# Altium schematic symbol library Connector-VH.SchLib: 15 symbols
Pins are listed as number, name and electrical type; pins without a type are passive.

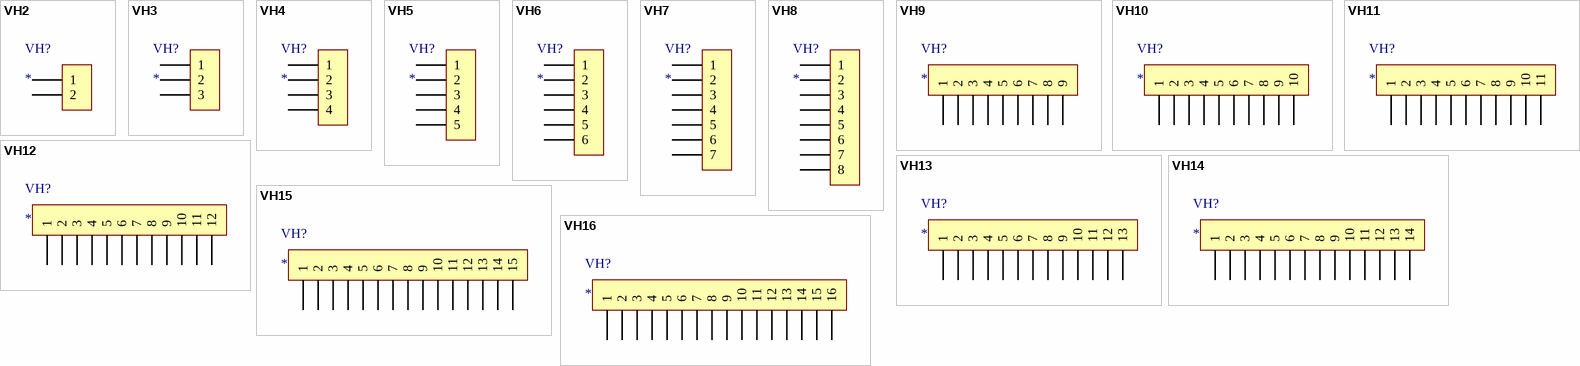
[diagram p0: symbols VH2 to VH16]

## VH2
designator VH?
footprint VH3.96-2A
footprint VH3.96-2AW
footprint VH3.96-2AWD
pins: 1, 2

## VH3
designator VH?
footprint VH3.96-3A
footprint VH3.96-3AW
footprint VH3.96-3AWD
pins: 1, 2, 3

## VH4
designator VH?
footprint VH3.96-4A
footprint VH3.96-4AW
footprint VH3.96-4AWD
pins: 1, 2, 3, 4

## VH5
designator VH?
footprint VH3.96-5A
footprint VH3.96-5AW
footprint VH3.96-5AWD
pins: 1, 2, 3, 4, 5

## VH6
designator VH?
footprint VH3.96-6A
footprint VH3.96-6AW
footprint VH3.96-6AWD
pins: 1, 2, 3, 4, 5, 6

## VH7
designator VH?
footprint VH3.96-7A
footprint VH3.96-7AW
footprint VH3.96-7AWD
pins: 1, 2, 3, 4, 5, 6, 7

## VH8
designator VH?
footprint VH3.96-8A
footprint VH3.96-8AW
footprint VH3.96-8AWD
pins: 1, 2, 3, 4, 5, 6, 7, 8

## VH9
designator VH?
footprint VH3.96-9A
footprint VH3.96-9AW
footprint VH3.96-9AWD
pins: 1, 2, 3, 4, 5, 6, 7, 8, 9

## VH10
designator VH?
footprint VH3.96-10A
footprint VH3.96-10AW
footprint VH3.96-10AWD
pins: 1, 2, 3, 4, 5, 6, 7, 8, 9, 10

## VH11
designator VH?
footprint VH3.96-11A
footprint VH3.96-11AW
footprint VH3.96-11AWD
pins: 1, 2, 3, 4, 5, 6, 7, 8, 9, 10, 11

## VH12
designator VH?
footprint VH3.96-12A
footprint VH3.96-12AW
footprint VH3.96-12AWD
pins: 1, 2, 3, 4, 5, 6, 7, 8, 9, 10, 11, 12

## VH13
designator VH?
footprint VH3.96-13A
footprint VH3.96-13AW
footprint VH3.96-13AWD
pins: 1, 2, 3, 4, 5, 6, 7, 8, 9, 10, 11, 12, 13

## VH14
designator VH?
footprint VH3.96-14A
footprint VH3.96-14AW
footprint VH3.96-14AWD
pins: 1, 2, 3, 4, 5, 6, 7, 8, 9, 10, 11, 12, 13, 14

## VH15
designator VH?
footprint VH3.96-15A
footprint VH3.96-15AW
footprint VH3.96-15AWD
pins: 1, 2, 3, 4, 5, 6, 7, 8, 9, 10, 11, 12, 13, 14, 15

## VH16
designator VH?
footprint VH3.96-16A
footprint VH3.96-16AW
footprint VH3.96-16AWD
pins: 1, 2, 3, 4, 5, 6, 7, 8, 9, 10, 11, 12, 13, 14, 15, 16